# Altium schematic symbol library BZX85C5v1(YJ).SchLib: 1 symbol
Pins are listed as number, name and electrical type; pins without a type are passive.

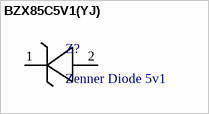
[diagram p0: symbol BZX85C5V1(YJ)]

## BZX85C5V1(YJ)
designator Z?, comment Zenner Diode 5v1
pins: 1 Cathod, 2 Anode